# Altium footprint library PcbLib1.PcbLib: 4 footprints
Each footprint in its own frame and in the unit in brackets; x right, y up, seen from the top. Pads: shape width x height; smd on the part's side, far side on the other; paste and mask are expansions set on the pad; w line width, h text height; cw(c..) or ccw(c..) is an arc to the next point about the centre after c.
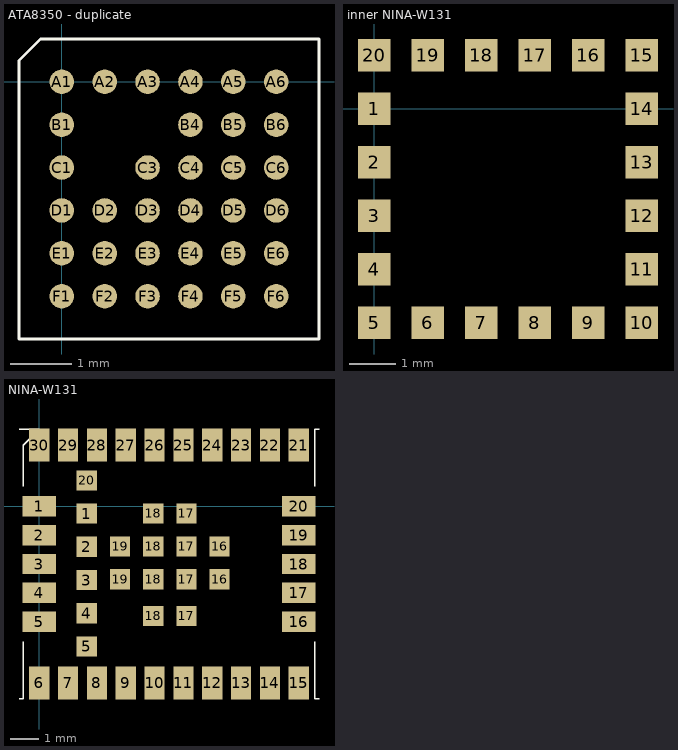
[diagram p0: the footprints below, top view; thin cyan lines are the x and y axes]

## ATA8350 - duplicate [mm]
pads (33):
  round 0.4 smd: A1(0,0) A2(0.7,0) A3(1.4,0) A4(2.1,0) A5(2.8,0) A6(3.5,0) B1(0,-0.7) B4(2.1,-0.7) B5(2.8,-0.7) B6(3.5,-0.7) C1(0,-1.4) C3(1.4,-1.4) C4(2.1,-1.4) C5(2.8,-1.4) C6(3.5,-1.4) D1(0,-2.1) D2(0.7,-2.1) D3(1.4,-2.1) D4(2.1,-2.1) D5(2.8,-2.1) D6(3.5,-2.1) E1(0,-2.8) E2(0.7,-2.8) E3(1.4,-2.8) E4(2.1,-2.8) E5(2.8,-2.8) E6(3.5,-2.8) F1(0,-3.5) F2(0.7,-3.5) F3(1.4,-3.5) F4(2.1,-3.5) F5(2.8,-3.5) F6(3.5,-3.5)
Top Overlay:
  lines w0.05: -0.7,-4.2 4.2,-4.2 4.2,0.7 -0.35,0.7 -0.7,0.35 -0.7,-4.2

## inner NINA-W131 [mil]
pads (20):
  rect 27.6x27.6 smd: 1(0,0) 2(0,-45.3) 3(0,-90.6) 4(0,-135.9) 5(0,-181.2) 6(45.3,-181.2) 7(90.6,-181.2) 8(135.9,-181.2) 9(181.2,-181.2) 10(226.5,-181.2) 11(226.5,-135.9) 12(226.5,-90.6) 13(226.5,-45.3) 14(226.5,0) 15(226.5,45.3) 16(181.2,45.3) 17(135.9,45.3) 18(90.6,45.3) 19(45.3,45.3) 20(0,45.3)

## NINA-W131 [mm]
pads (48):
  rect 1.15x0.7 smd: 1(0,0) 2(0,-1) 3(0,-2) 4(0,-3) 5(0,-4) 16(9,-4) 17(9,-3) 18(9,-2) 19(9,-1) 20(9,0)
  rect 0.701x0.701 smd: 1(1.651,-0.254) 2(1.651,-1.405) 3(1.651,-2.555) 4(1.651,-3.706) 5(1.651,-4.856) 16(6.253,-2.532) 16(6.253,-1.389) 17(5.103,-3.802) 17(5.103,-2.532) 17(5.103,-1.389) 17(5.103,-0.246) 18(3.952,-3.802) 18(3.952,-2.532) 18(3.952,-1.389) 18(3.952,-0.246) 19(2.802,-2.532) 19(2.802,-1.389) 20(1.651,0.897)
  rect 0.7x1.15 smd: 6(0,-6.125) 7(1,-6.125) 8(2,-6.125) 9(3,-6.125) 10(4,-6.125) 11(5,-6.125) 12(6,-6.125) 13(7,-6.125) 14(8,-6.125) 15(9,-6.125) 21(9,2.125) 22(8,2.125) 23(7,2.125) 24(6,2.125) 25(5,2.125) 26(4,2.125) 27(3,2.125) 28(2,2.125) 29(1,2.125) 30(0,2.125)
Top Overlay:
  lines w0.05: -0.7,-6.675 -0.55,-6.675 -0.55,-4.7 ; -0.7,2.675 0,2.675 -0.55,2.125 -0.55,0.7 ; 9.55,-4.7 9.55,-6.675 9.7,-6.675 ; 9.55,0.7 9.55,2.675 9.7,2.675

## PCBComponent_1 [mm]